# EAGLE library part PROG-JLINK-SEAGGER (library NordicSemi)
1.27mm Pitch Dil Vertical SMT Pin Header Manufacturer: Harwin Product Number: M50-3601042
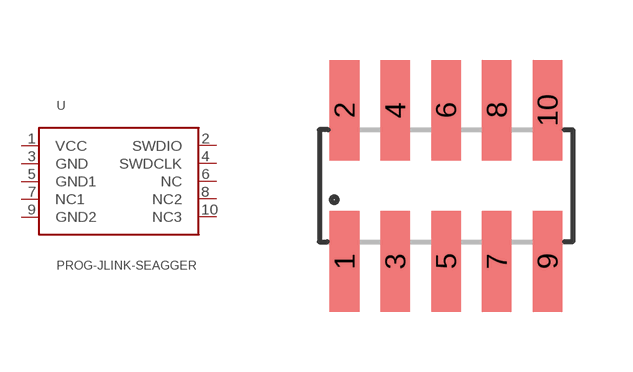
[diagram p2: symbol with the pads of M50-3600742; footprint M50-3600742]

Designator prefix -

## PROG-JLINK-SEAGGER  [M50-3600742]
1  VCC
2  SWDIO
3  GND
4  SWDCLK
5  GND1
6  NC
7  NC1
8  NC2
9  GND2
10  NC3

## Footprint M50-3600742 (pad centres in mm)
smd 0.74 x 2.515: 1 -2.54,-1.893; 2 -2.54,1.893; 3 -1.27,-1.893; 4 -1.27,1.893; 5 0,-1.893; 6 0,1.893; 7 1.27,-1.893; 8 1.27,1.893; 9 2.54,-1.893; 10 2.54,1.893